# Altium schematic symbol library Transistor.SchLib: 1 symbol
Pins are listed as number, name and electrical type; pins without a type are passive.

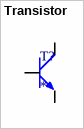
[diagram p0: symbol Transistor]

## Transistor
designator T?
pins: 1, 2 Emmiter, 3 Collector